# Altium schematic symbol library 74LVC1T45.SchLib: 1 symbol
Pins are listed as number, name and electrical type; pins without a type are passive.

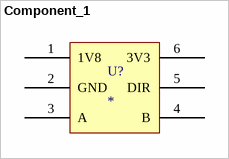
[diagram p0: symbol Component_1]

## Component_1
designator U?
74LVC1T45 Level Shifter
footprint 74LVC1T45 (SOT65P210X110-6N, SOT23, 6-Leads, Body 2.00x2.10mm, Pitch 0.65mm, IPC Medium Density)
pins: 1 1V8, 2 GND, 3 A, 4 B, 5 DIR, 6 3V3